# Altium schematic symbol library Shunt_Resistors.SchLib: 1 symbol
Pins are listed as number, name and electrical type; pins without a type are passive.

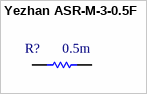
[diagram p0: symbol Yezhan ASR-M-3-0.5F]

## Yezhan ASR-M-3-0.5F
designator R?  value 0.5m  (hidden comment: *)
6W 0.5mΩ Patch Splitter ±115ppm/℃ ±1% 2512 Current Sense Resistors / Shunt Resistors ROHS
footprint WURTH 2512 RESISTOR (Metal Plate Resistors, SMT, body size 6.3x3.1mm)
pins: 1, 2